# Altium schematic symbol library elvis_lib.SchLib: 43 symbols
Pins are listed as number, name and electrical type; pins without a type are passive.

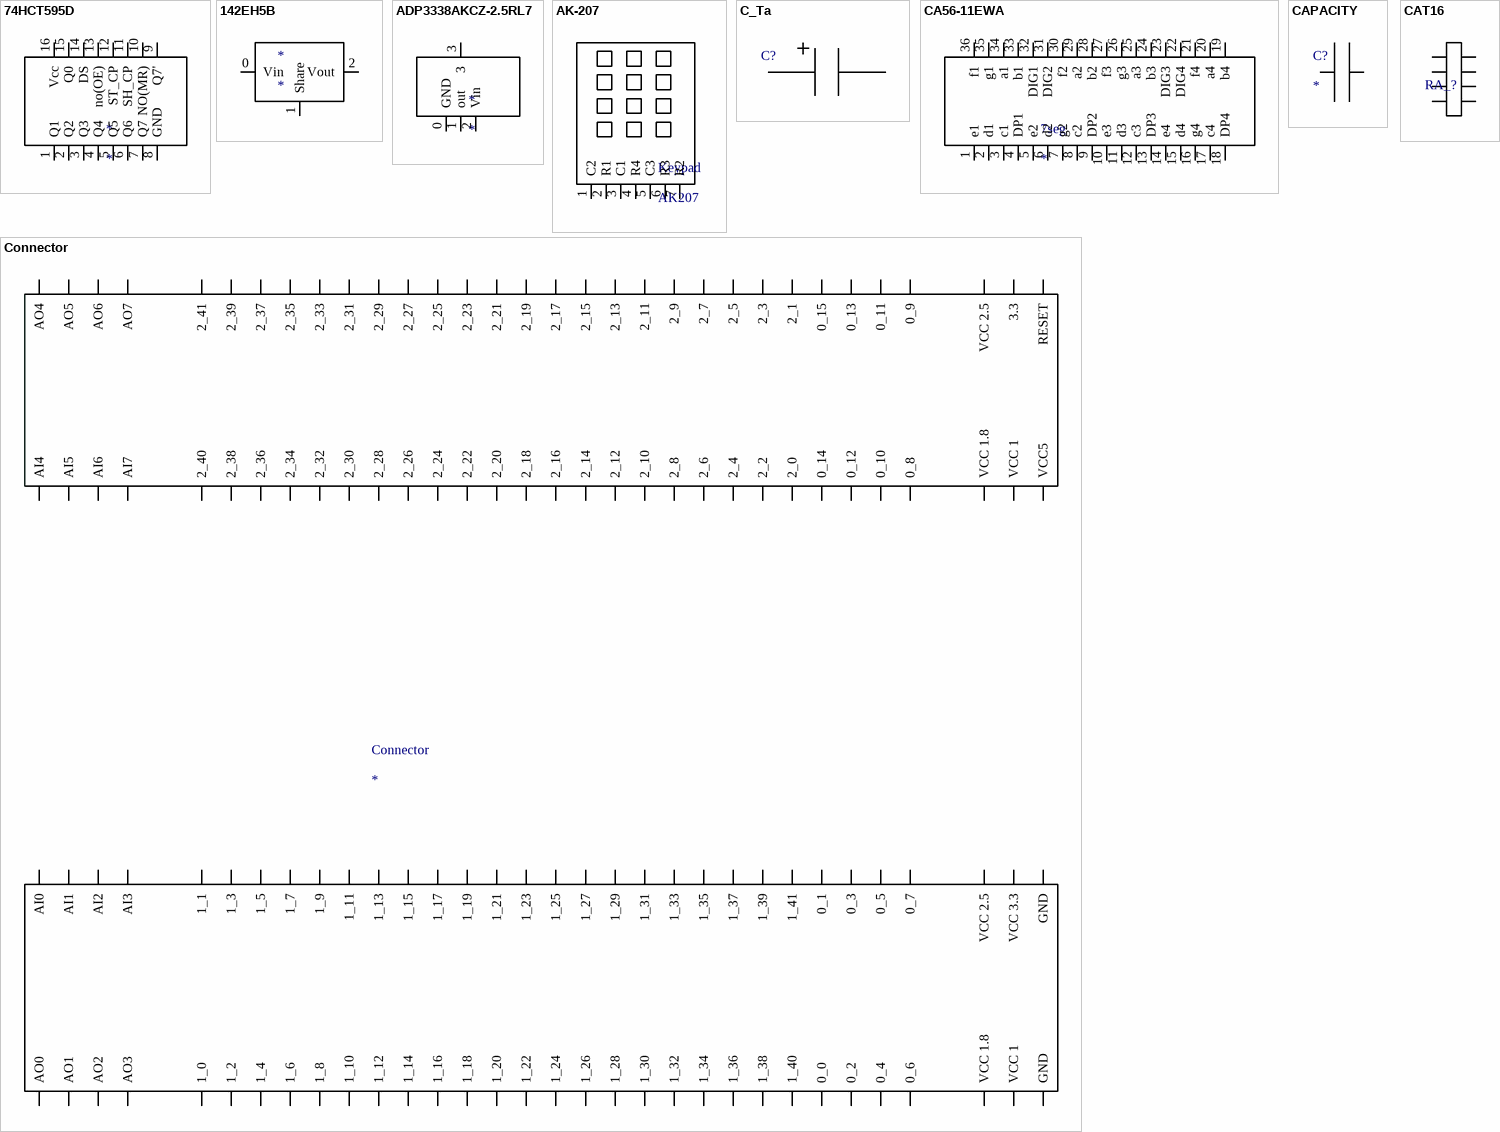
[diagram p0: symbols 74HCT595D to Connector]

## 74HCT595D
designator *
footprint SN74HC164DR-D
pins: 1 Q1, 2 Q2, 3 Q3, 4 Q4, 5 Q5, 6 Q6, 7 Q7, 8 GND, 9 Q7', 10 NO(MR), 11 SH_CP, 12 ST_CP, 13 no(OE), 14 DS, 15 Q0, 16 Vcc

## 142ЕН5В
designator *
footprint К(Р)142ЕН5В
pins: 0 Vin, 1 Share, 2 Vout

## ADP3338AKCZ-2.5RL7
designator *
footprint sot223
pins: 0 GND, 1 out, 2 Vin, 3

## AK-207
designator Keypad, comment AK207
footprint AK-207
pins: 1 C2, 2 R1, 3 C1, 4 R4, 5 C3, 6 R3, 7 R2

## C_Ta
designator C?  (value not drawn)
tantalum capacitor; capacity: *
footprint C_Ta
pins: 1, 2

## CA56-11EWA
designator 7seg
footprint CA56-11EWA
pins: 1 e1, 2 d1, 3 c1, 4 DP1, 5 e2, 6 d2, 7 g2, 8 c2, 9 DP2, 10 e3, 11 d3, 12 c3, 13 DP3, 14 e4, 15 d4, 16 g4, 17 c4, 18 DP4, 19 b4, 20 a4, 21 f4, 22 DIG4, 23 DIG3, 24 b3, 25 a3, 26 g3, 27 f3, 28 b2, 29 a2, 30 f2, 31 DIG2, 32 DIG1, 33 b1, 34 a1, 35 g1, 36 f1

## CAPACITY
designator C?
Capacity: *
footprint R0805
footprint 1206
pins: 1, 2

## CAT16
designator RA_?  (value not drawn)
resistor array
footprint CAT16-102J4_NEW (Resistor Chip Array, Concave, 8-Leads, Pitch 0,90mm,  Body 3,20x1,55mm,  IPC Medium Density)
pins: 0, 1, 2, 3, 4, 5, 6, 7

## Connector
designator Connector
footprint Connector (MCU/FPGA board connector)
pins: 1 GND, 2 VCC 1, 3 VCC 1.8, 4 0_6, 5 0_4, 6 0_2, 7 0_0, 8 1_40, 9 1_38, 10 1_36, 11 1_34, 12 1_32, 13 1_30, 14 1_28, 15 1_26, 16 1_24, 17 1_22, 18 1_20, 19 1_18, 20 1_16, 21 1_14, 22 1_12, 23 1_10, 24 1_8, 25 1_6, 26 1_4, 27 1_2, 28 1_0, 29 AO3, 30 AO2, 32 AO0, 33 AI0, 34 AI1, 35 AI2, 36 AI3, 37 1_1, 38 1_3, 39 1_5, 40 1_7, 41 1_9, 42 1_11, 43 1_13, 44 1_15, 45 1_17, 46 1_19, 47 1_21, 48 1_23, 49 1_25, 50 1_27, 51 1_29, 52 1_31, 53 1_33, 54 1_35, 55 1_37, 56 1_39, 57 1_41, 58 0_1, 59 0_3, 60 0_5, 61 0_7, 62 VCC 2.5, 63 VCC 3.3, 64 GND, 65 VCC5, 66 VCC 1, 67 VCC 1.8, 68 0_8, 69 0_10, 70 0_12, 71 0_14, 72 2_0, 73 2_2, 74 2_4, 75 2_6, 76 2_8, 77 2_10, 78 2_12, 79 2_14, 80 2_16, 81 2_18, 82 2_20, 83 2_22, 84 2_24, 85 2_26, 86 2_28, 87 2_30, 88 2_32, 89 2_34, 90 2_36, 91 2_38, 92 2_40, 93 AI7, 94 AI6, 95 AI5, 96 AI4, 97 AO4, 98 AO5, 99 AO6, 100 AO7, 101 2_41, 102 2_39, 103 2_37, 104 2_35, 105 2_33, 106 2_31, 107 2_29, 108 2_27, 109 2_25, 110 2_23, 111 2_21, 112 2_19, 113 2_17, 114 2_15, 115 2_13, 116 2_11, 117 2_9, 118 2_7, 119 2_5, 120 2_3, 121 2_1, 122 0_15, 123 0_13, 124 0_11, 125 0_9, 126 VCC 2.5, 127 3.3, 128 RESET, AO1

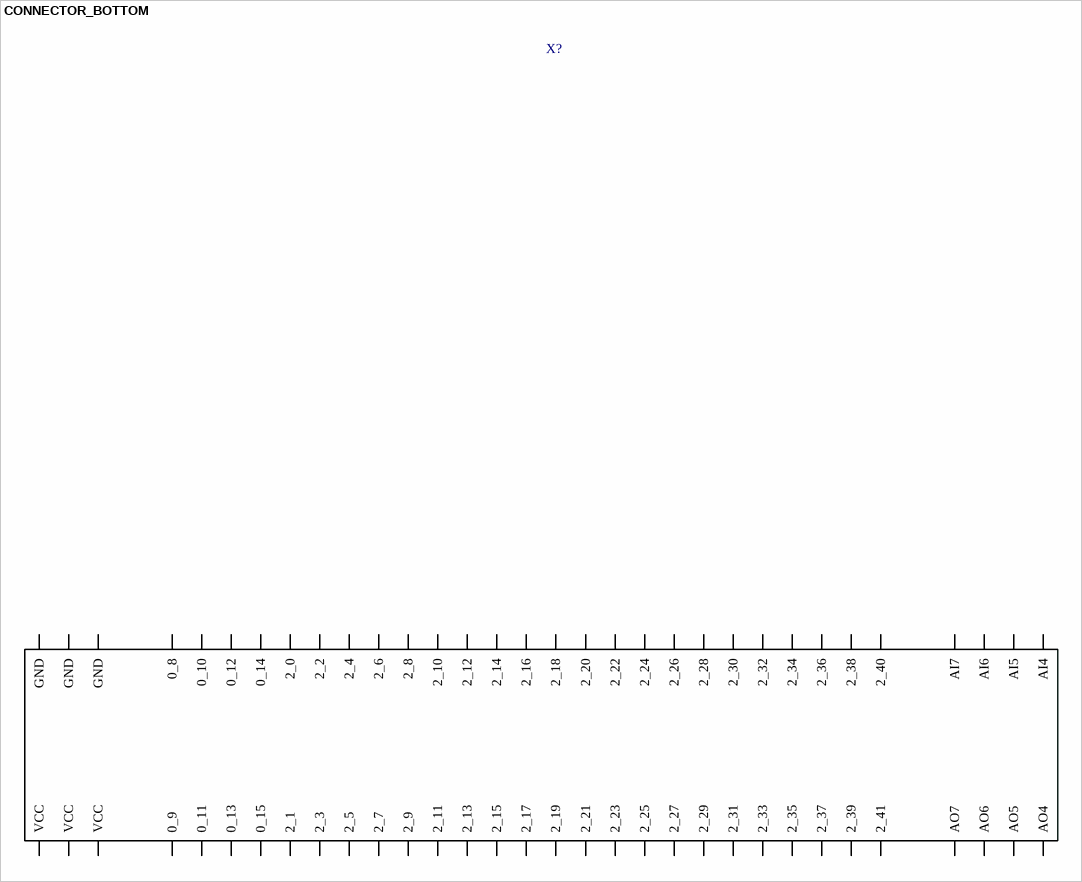
[diagram p1: symbol CONNECTOR_BOTTOM]

## CONNECTOR_BOTTOM
designator X?  (value not drawn)
control board connector
footprint Connector (MCU/FPGA board connector)
pins: 0 GND, 1 GND, 2 GND, 3 0_8, 4 0_10, 5 0_12, 6 0_14, 7 2_0, 8 2_2, 9 2_4, 10 2_6, 11 2_8, 12 2_10, 13 2_12, 14 2_14, 15 2_16, 16 2_18, 17 2_20, 18 2_22, 19 2_24, 20 2_26, 21 2_28, 22 2_30, 23 2_32, 24 2_34, 25 2_36, 26 2_38, 27 2_40, 28 AI7, 29 AI6, 30 AI5, 31 AI4, 32 AO4, 33 AO5, 34 AO6, 35 AO7, 36 2_41, 37 2_39, 38 2_37, 39 2_35, 40 2_33, 41 2_31, 42 2_29, 43 2_27, 44 2_25, 45 2_23, 46 2_21, 47 2_19, 48 2_17, 49 2_15, 50 2_13, 51 2_11, 52 2_9, 53 2_7, 54 2_5, 55 2_3, 56 2_1, 57 0_15, 58 0_13, 59 0_11, 60 0_9, 61 VCC, 62 VCC, 63 VCC

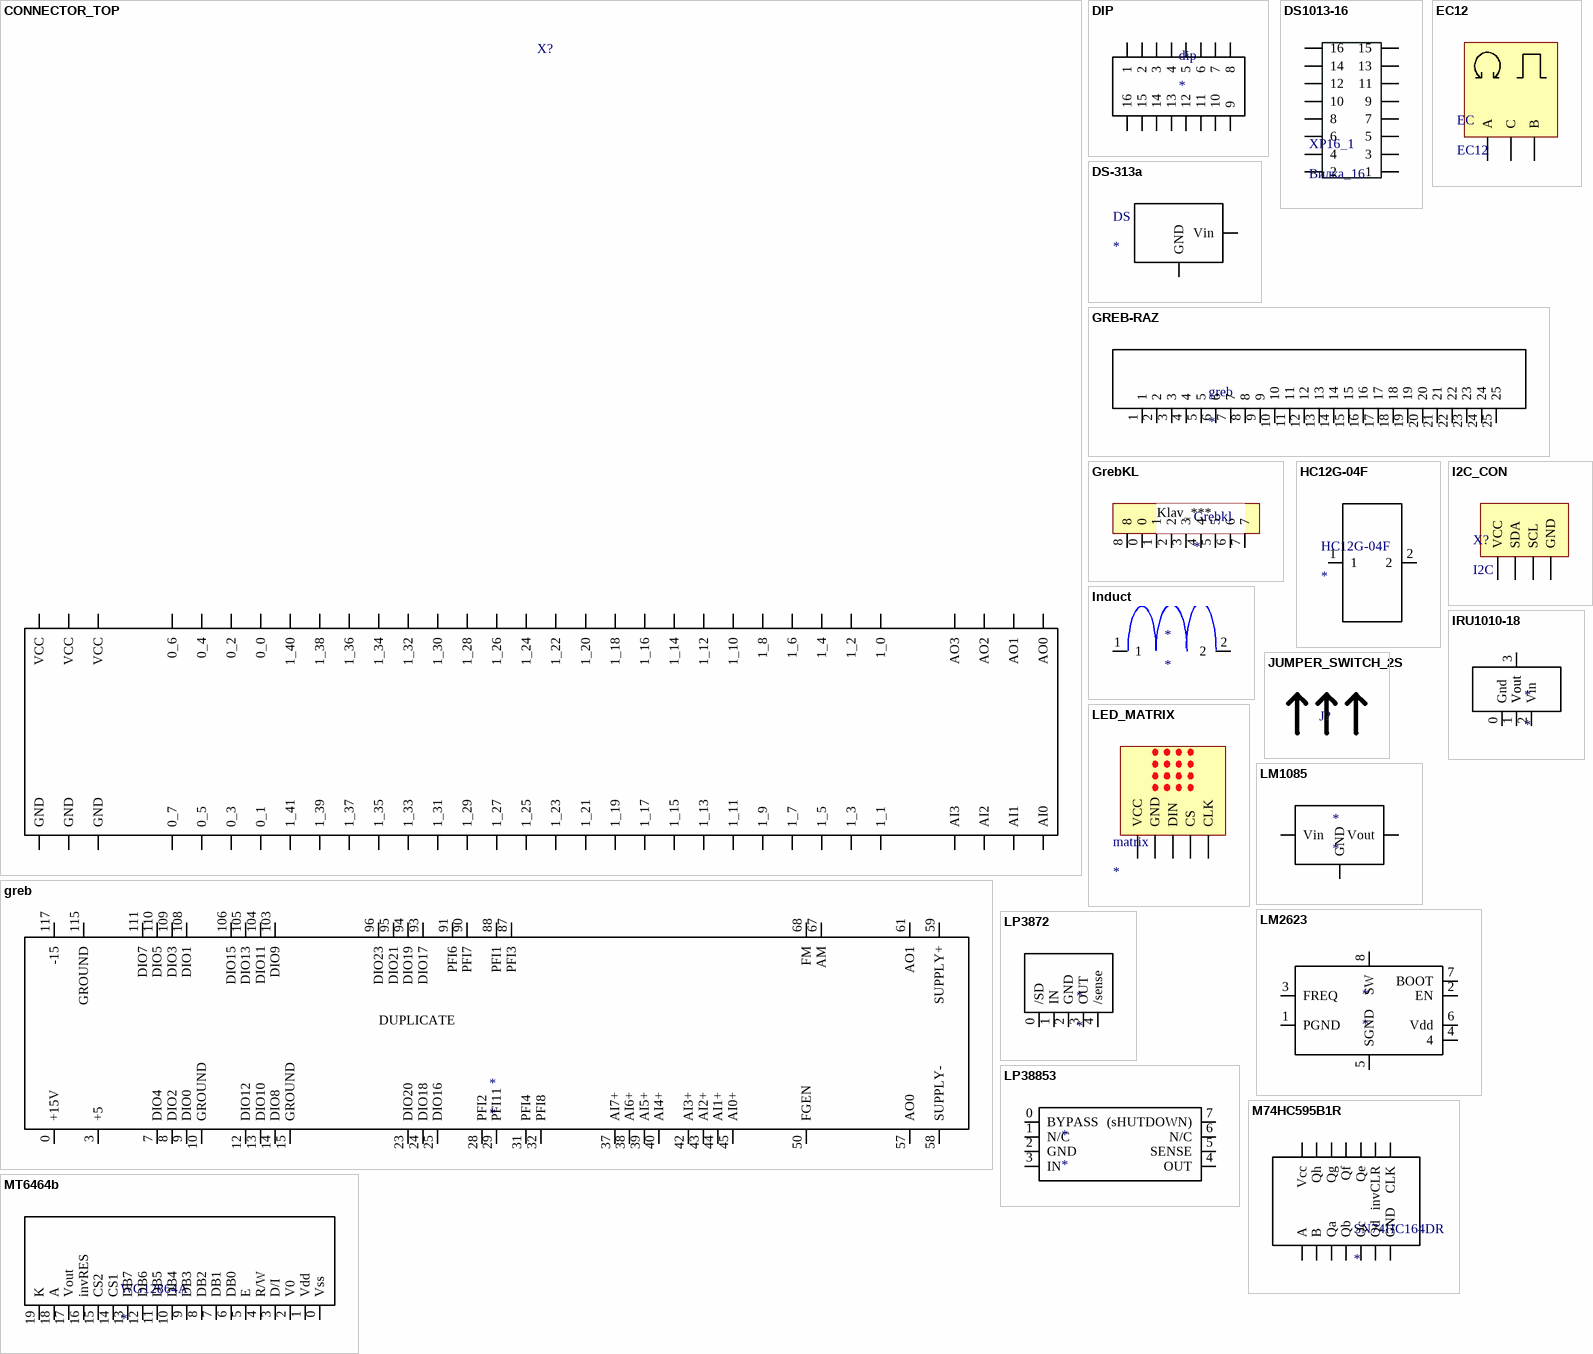
[diagram p2: symbols CONNECTOR_TOP to MT6464b]

## CONNECTOR_TOP
designator X?
control board connector
footprint Connector (MCU/FPGA board connector)
pins: 0 VCC, 1 VCC, 2 VCC, 3 0_6, 4 0_4, 5 0_2, 6 0_0, 7 1_40, 8 1_38, 9 1_36, 10 1_34, 11 1_32, 12 1_30, 13 1_28, 14 1_26, 15 1_24, 16 1_22, 17 1_20, 18 1_18, 19 1_16, 20 1_14, 21 1_12, 22 1_10, 23 1_8, 24 1_6, 25 1_4, 26 1_2, 27 1_0, 28 AO3, 29 AO2, 30 AO1, 31 AO0, 32 AI0, 33 AI1, 34 AI2, 35 AI3, 36 1_1, 37 1_3, 38 1_5, 39 1_7, 40 1_9, 41 1_11, 42 1_13, 43 1_15, 44 1_17, 45 1_19, 46 1_21, 47 1_23, 48 1_25, 49 1_27, 50 1_29, 51 1_31, 52 1_33, 53 1_35, 54 1_37, 55 1_39, 56 1_41, 57 0_1, 58 0_3, 59 0_5, 60 0_7, 61 GND, 62 GND, 63 GND

## DIP
designator dip
footprint SWD1-8
pins: 1, 2, 3, 4, 5, 6, 7, 8, 9, 10, 11, 12, 13, 14, 15, 16

## DS1013-16
designator XP16_1, comment Вилка_16
16_pin
footprint DS1013-16
pins: 1, 2, 3, 4, 5, 6, 7, 8, 9, 10, 11, 12, 13, 14, 15, 16

## DS-313a
designator DS
footprint ds-313
pins: 0 GND, 1 Vin

## EC12
designator EC
EC12 rotary encoder
footprint EC (EC12 rotary encoder)
pins: 1 A, 2 C, 3 B

## greb
designator *
footprint GrebForPCI
pins: 0 +15V, 3 +5, 7 DIO4, 8 DIO2, 9 DIO0, 10 GROUND, 12 DIO12, 13 DIO10, 14 DIO8, 15 GROUND, 23 DIO20, 24 DIO18, 25 DIO16, 28 PFI2, 29 PFI11, 31 PFI4, 32 PFI8, 37 AI7+, 38 AI6+, 39 AI5+, 40 AI4+, 42 AI3+, 43 AI2+, 44 AI1+, 45 AI0+, 50 FGEN, 57 AO0, 58 SUPPLY-, 59 SUPPLY+, 61 AO1, 67 AM, 68 FM, 87 PFI3, 88 PFI1, 90 PFI7, 91 PFI6, 93 DIO17, 94 DIO19, 95 DIO21, 96 DIO23, 103 DIO9, 104 DIO11, 105 DIO13, 106 DIO15, 108 DIO1, 109 DIO3, 110 DIO5, 111 DIO7, 115 GROUND, 117 -15
text: DUPLICATE /

## GREB-RAZ
designator greb
footprint GREBENKA
pins: 1, 2, 3, 4, 5, 6, 7, 8, 9, 10, 11, 12, 13, 14, 15, 16, 17, 18, 19, 20, 21, 22, 23, 24, 25

## GrebKL
designator Grebkl
footprint Greb_KL
pins: 0, 1, 2, 3, 4, 5, 6, 7, 8
text: Klav_***

## HC12G-04F
designator HC12G-04F
footprint HC12G-04F
pins: 1, 2

## I2C_CON
designator X?, comment I2C
i2c pls connector
footprint I2C_CON (I2C pls connector)
pins: 1 VCC, 2 SDA, 3 SCL, 4 GND

## Induct
designator *
footprint B82464G4472M
pins: 1, 2

## IRU1010-18
designator *
footprint IRU1010-18
pins: 0 Gnd, 1 Vout, 2 Vin, 3 Vout

## JUMPER_SWITCH_2S
designator J?
2 state jumper switch
footprint JUMPER_SWITCH_2S (2 state jumper switch)
pins: 0, 1, 2

## LED_MATRIX
designator matrix
led matrix, max7219 driver
footprint LED_MATRIX
pins: 1 VCC, 2 GND, 3 DIN, 4 CS, 5 CLK

## LM1085
designator *
footprint LM1085
pins: 0 GND, 1 Vout, 2 Vin

## LM2623
designator *
footprint VSSOP-8
pins: 1 PGND, 2 EN, 3 FREQ, 4, 5 SGND, 6 Vdd, 7 BOOT, 8 SW

## LP3872
designator *
footprint SC1566I5M2.5TRT
pins: 0 /SD, 1 IN, 2 GND, 3 OUT, 4 /sense

## LP38853
designator *
footprint 8SO PowerPAD
pins: 0 BYPASS, 1 N/C, 2 GND, 3 IN, 4 OUT, 5 SENSE, 6 N/C, 7 (sHUTDOWN)

## M74HC595B1R
designator SN74HC164DR
footprint SN74HC164DRX
pins: 1 A, 2 B, 3 Qa, 4 Qb, 5 Qc, 6 Qd, 7 GND, 8 CLK, 9 invCLR, 10 Qe, 11 Qf, 12 Qg, 13 Qh, 14 Vcc

## MT6464b
designator WG12864A
footprint WG12864A
pins: 0 Vss, 1 Vdd, 2 V0, 3 D/I, 4 R/W, 5 E, 6 DB0, 7 DB1, 8 DB2, 9 DB3, 10 DB4, 11 DB5, 12 DB6, 13 DB7, 14 CS1, 15 CS2, 16 invRES, 17 Vout, 18 A, 19 K

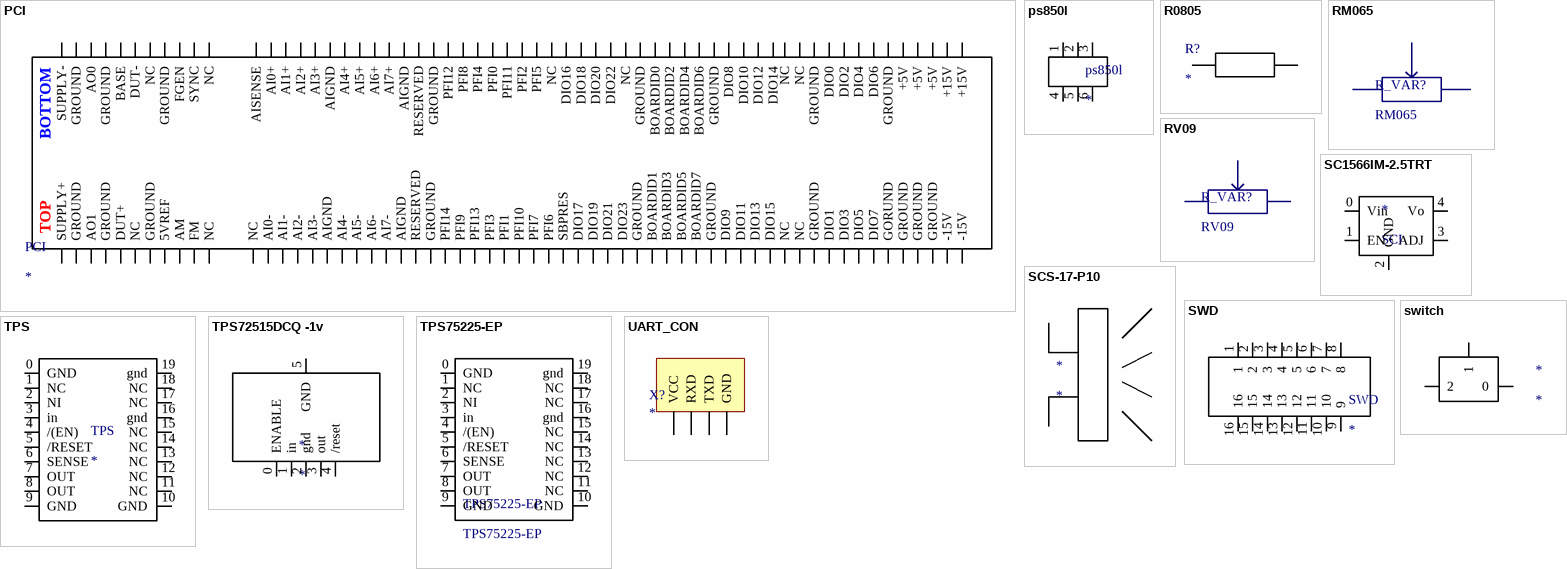
[diagram p3: symbols PCI to UART_CON]

## PCI
designator PCI
footprint PCI-120
pins: 0 SUPPLY+, 1 GROUND, 2 AO1, 3 GROUND, 4 DUT+, 5 NC, 6 GROUND, 7 5VREF, 8 AM, 9 FM, 10 NC, 11 NC, 12 AI0-, 13 AI1-, 14 AI2-, 15 AI3-, 16 AIGND, 17 AI4-, 18 AI5-, 19 AI6-, 20 AI7-, 21 AIGND, 22 RESERVED, 23 GROUND, 24 PFI14, 25 PFI9, 26 PFI13, 27 PFI3, 28 PFI1, 29 PFI10, 30 PFI7, 31 PFI6, 32 SBPRES, 33 DIO17, 34 DIO19, 35 DIO21, 36 DIO23, 37 GROUND, 38 BOARDlD1, 39 BOARDlD3, 40 BOARDlD5, 41 BOARDlD7, 42 GROUND, 43 DIO9, 44 DIO11, 45 DIO13, 46 DIO15, 47 NC, 48 NC, 49 GROUND, 50 DIO1, 51 DIO3, 52 DIO5, 53 DIO7, 54 GORUND, 55 GROUND, 56 GROUND, 57 GROUND, 58 -15V, 59 -15V, 60 +15V, 61 +15V, 62 +5V, 63 +5V, 64 +5V, 65 GROUND, 66 DIO6, 67 DIO4, 68 DIO2, 69 DIO0, 70 GROUND, 71 NC, 72 NC, 73 DIO14, 74 DIO12, 75 DIO10, 76 DIO8, 77 GROUND, 78 BOARDID6, 79 BOARDID4, 80 BOARDID2, 81 BOARDID0, 82 GROUND, 83 NC, 84 DIO22, 85 DIO20, 86 DIO18, 87 DIO16, 88 NC, 89 PFI5, 90 PFI2, 91 PFI11, 92 PFI0, 93 PFI4, 94 PFI8, 95 PFI12, 96 GROUND, 97 RESERVED, 98 AIGND, 99 AI7+, 100 AI6+, 101 AI5+, 102 AI4+, 103 AIGND, 104 AI3+, 105 AI2+, 106 AI1+, 107 AI0+, 108 AISENSE, 109 NC, 110 SYNC, 111 FGEN, 112 GROUND, 113 NC, 114 DUT-, 115 BASE, 116 GROUND, 117 AO0, 118 GROUND, 119 SUPPLY-
text: BOTTOM; TOP

## ps850l
designator ps850l
footprint ps850l
pins: 1, 2, 3, 4, 5, 6

## R0805
designator R?
Resistance: *
footprint R0805
pins: 1, 2

## RM065
designator R_VAR?
trimming potentiometer
footprint RM065 (trimming potentiometer)
pins: 1, 2, 3

## RV09
designator R_VAR?
footprint RV09 (RV09 potentiometer)
pins: 1 2, 2 4, 3

## SC1566IM-2.5TRT
designator *, comment SCI
footprint JUMPER_SWITCH_2S (2 state jumper switch)
pins: 0 Vin, 1 EN, 2 GND, 3 ADJ, 4 Vo

## SCS-17-P10
designator *
footprint SCS-17-P10
pins: 0, 1

## SWD
designator SWD
footprint SWD1-8
pins: 1, 2, 3, 4, 5, 6, 7, 8, 9, 10, 11, 12, 13, 14, 15, 16

## switch
designator *
footprint К(Р)142ЕН5В
pins: 0, 1, 2

## TPS
designator TPS
footprint 20HTSSOP
pins: 0 GND, 1 NC, 2 NI, 3 in, 4 /(EN), 5 /RESET, 6 SENSE, 7 OUT, 8 OUT, 9 GND, 10 GND, 11 NC, 12 NC, 13 NC, 14 NC, 15 NC, 16 gnd, 17 NC, 18 NC, 19 gnd

## TPS72515DCQ -1v
designator *
footprint SOT223-5
pins: 0 ENABLE, 1 in, 2 gnd, 3 out, 4 /reset, 5 GND

## TPS75225-EP
designator TPS75225-EP
footprint 20HTSSOP
pins: 0 GND, 1 NC, 2 NI, 3 in, 4 /(EN), 5 /RESET, 6 SENSE, 7 OUT, 8 OUT, 9 GND, 10 GND, 11 NC, 12 NC, 13 NC, 14 NC, 15 NC, 16 gnd, 17 NC, 18 NC, 19 gnd

## UART_CON
designator X?
pls uart connector
footprint UART_CON (pls uart connector)
pins: 1 VCC, 2 RXD, 3 TXD, 4 GND